# Altium schematic symbol library CR1216_MFR_SM.SchLib: 1 symbol
Pins are listed as number, name and electrical type; pins without a type are passive.

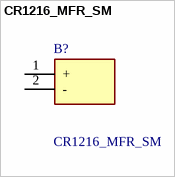
[diagram p0: symbol CR1216_MFR_SM]

## CR1216_MFR_SM
designator B?
Coin Cell Battery 2 PIN HORIZ SMT 25mAh 12.5x1.9mm; Manufacturer_Name: RENATA; Manufacturer_Part_Number: CR1216 MFR SM; Geometry.Height: 2.1mm; Mouser Part Number: 614-CR1216-MFR-SM; Mouser Price/Stock: https://www.mouser.co.uk/ProductDetail/Renata/CR1216-MFR-SM?qs=4nVQHMCMxQx0A4GUuQVNLg%3D%3D; Arrow Part Number: *; Arrow Price/Stock: *; Datasheet Link: https://www.renatabatteries.us/products/batteries/lithium-coin-tabbed/cr1216-mfr-sm
footprint CR1216MFRSM
pins: 1 +, 2 -